# EAGLE library part LM2594DADJR2G (library smartplug)
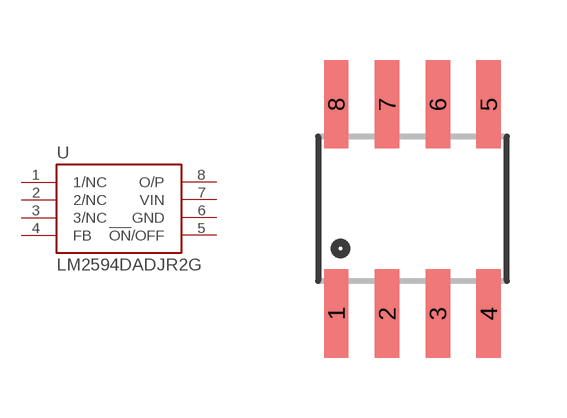
[diagram p1: symbol with the pads of SOIC8; footprint SOIC8]

Designator prefix -

## LM2594DADJR2G-SOIC8  [SOIC8]
1  1/NC  nc
2  2/NC  nc
3  3/NC  nc
4  FB  in
5  !ON!/OFF
6  GND  pwr
7  VIN  in
8  O/P  out

## Footprint SOIC8 (pad centres in mm)
smd 0.61 x 2.21: 1 -1.905,-2.616; 2 -0.635,-2.616; 3 0.635,-2.616; 4 1.905,-2.616; 5 1.905,2.616; 6 0.635,2.616; 7 -0.635,2.616; 8 -1.905,2.616